# EAGLE library part 1296-T30 (library con-leotronics)
1.27mm SINGLE ROW FEMALE SOCKET Source: http://www.leotronics.co.uk/Conexcon/Data%20Sheets/sec.%20A/1296ing.pdf
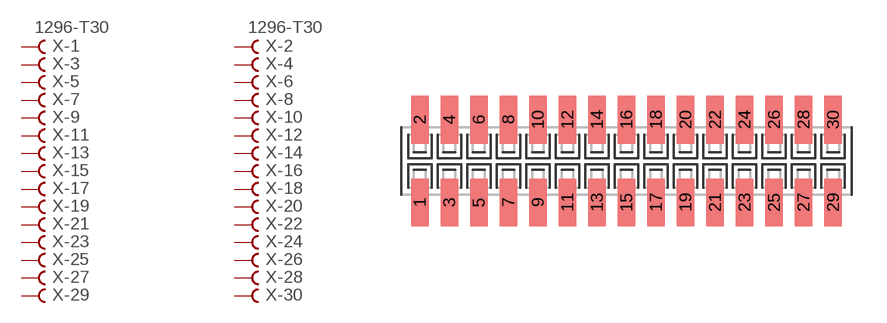
[diagram p12: symbol with the pads of 1296-30; footprint 1296-30]

Designator prefix X; gates -1=FVAL -2=FVAL -3=F -4=F -5=F -6=F -7=F -8=F -9=F -10=F -11=F -12=F -13=F -14=F -15=F -16=F -17=F -18=F -19=F -20=F -21=F -22=F -23=F -24=F -25=F -26=F -27=F -28=F -29=F -30=F

## 1296-T30  [1296-30]
1  -1:B  pas
2  -2:B  pas
3  -3:B  pas
4  -4:B  pas
5  -5:B  pas
6  -6:B  pas
7  -7:B  pas
8  -8:B  pas
9  -9:B  pas
10  -10:B  pas
11  -11:B  pas
12  -12:B  pas
13  -13:B  pas
14  -14:B  pas
15  -15:B  pas
16  -16:B  pas
17  -17:B  pas
18  -18:B  pas
19  -19:B  pas
20  -20:B  pas
21  -21:B  pas
22  -22:B  pas
23  -23:B  pas
24  -24:B  pas
25  -25:B  pas
26  -26:B  pas
27  -27:B  pas
28  -28:B  pas
29  -29:B  pas
30  -30:B  pas

## Footprint 1296-30 (pad centres in mm)
1.27mm SINGLE ROW FEMALE SOCKET Source: http://www.leotronics.co.uk/Conexcon/Data%20Sheets/sec.%20A/1296ing.pdf
smd 0.76 x 2.05: 1 -8.89,-1.78; 2 -8.89,1.78; 3 -7.62,-1.78; 4 -7.62,1.78; 5 -6.35,-1.78; 6 -6.35,1.78; 7 -5.08,-1.78; 8 -5.08,1.78; 9 -3.81,-1.78; 10 -3.81,1.78; 11 -2.54,-1.78; 12 -2.54,1.78; 13 -1.27,-1.78; 14 -1.27,1.78; 15 0,-1.78; 16 0,1.78; 17 1.27,-1.78; 18 1.27,1.78; 19 2.54,-1.78; 20 2.54,1.78; 21 3.81,-1.78; 22 3.81,1.78; 23 5.08,-1.78; 24 5.08,1.78; 25 6.35,-1.78; 26 6.35,1.78; 27 7.62,-1.78; 28 7.62,1.78; 29 8.89,-1.78; 30 8.89,1.78